# EAGLE library part BSZ097N04LS_G (library custom_parts)
mosfet datasheet at http://www.infineon.com/dgdl/BSZ097N04LSG_rev2.0.pdf?folderId=db3a3043163797a6011643468e7505a4&fileId=db3a3043163797a6011643be1d53068c
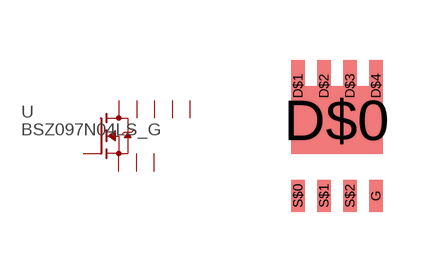
[diagram p6: symbol with the pads of PG-TSDSON8; footprint PG-TSDSON8]

Designator prefix -

## BSZ097N04LS_G  [PG-TSDSON8]
D$0  D  pas
D$1  D$1  pas
D$2  D$2  pas
D$3  D$3  pas
D$4  D$4  pas
G  G  pas
S$0  S  pas
S$1  S$1  pas
S$2  S$2  pas

## Footprint PG-TSDSON8 (pad centres in mm)
infineon mosfet package created from drawings at http://www.infineon.com/dgdl/Recommendations+for+Board+Assembly_T(S)DSON.pdf?folderId=db3a304313b8b5a60113cee8763b02d7&fileId=db3a30432239cccd0122c1581cb45996 (page 13 and TSDSON is Shrink SuperSO8)
smd 2.29 x 1.71: D$0 0,0.395
smd 0.34 x 1.3: D$1 -0.975,1.25; D$2 -0.325,1.25; D$3 0.325,1.25; D$4 0.975,1.25
smd 0.34 x 0.8: G 0.975,-1.5; S$0 -0.975,-1.5; S$1 -0.325,-1.5; S$2 0.325,-1.5